# EAGLE library part PIN_3X2 (library pinhead_3row)
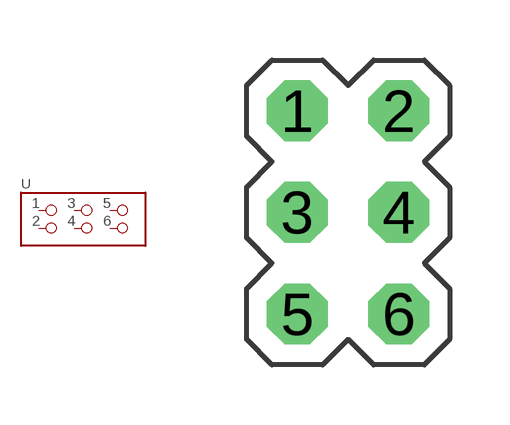
[diagram p8: symbol with the pads of PIN_3X2; footprint PIN_3X2]

Designator prefix -

## PIN_3X2  [PIN_3X2]
1  1
2  2
3  3
4  4
5  5
6  6

## Footprint PIN_3X2 (pad centres in mm)
drill 1.016 octagon: 1 1.27,-1.27; 2 3.81,-1.27; 3 1.27,-3.81; 4 3.81,-3.81; 5 1.27,-6.35; 6 3.81,-6.35